# EAGLE library part S22133 (library EMF-1)
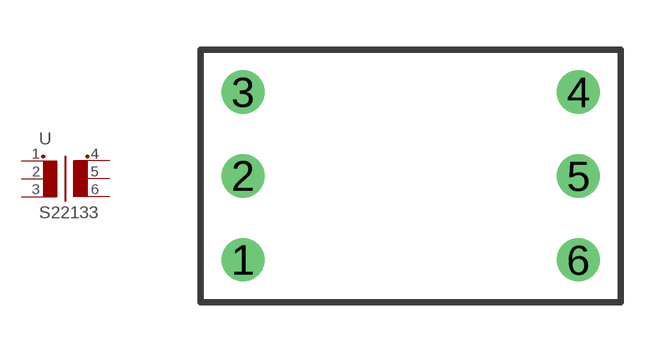
[diagram p1: symbol with the pads of S22133; footprint S22133]

Designator prefix -

## S22133  [S22133]
1  1  pas
2  2  pas
3  3  pas
4  4  pas
5  5  pas
6  6  pas

## Footprint S22133 (pad centres in mm)
drill 0.8 round: 1 -5.08,-2.54; 2 -5.08,0; 3 -5.08,2.54; 4 5.08,2.54; 5 5.08,0; 6 5.08,-2.54